# EAGLE library part PHB_1MM27_2X10_* (library _hhn_con_pinhead_box_1mm27)
Pin Header Box-Type, 1.27mm/0.5"/50mil Pitch, 2x10 Circuits Note: see library description for an important note about THT-version
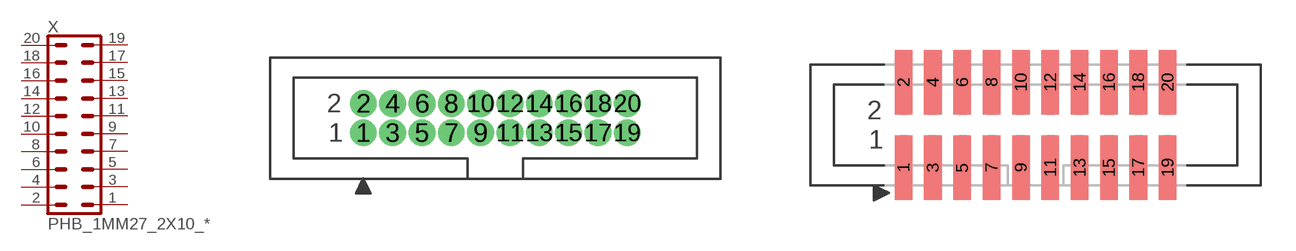
[diagram p14: symbol with the pads of PHB_1MM27_2X10_SNT; footprints PHB_1MM27_2X10_SNT, PHB_1MM27_2X10_SNS]

Designator prefix X

## PHB_1MM27_2X10_SNT  [PHB_1MM27_2X10_SNT]
1  1  pas
2  2  pas
3  3  pas
4  4  pas
5  5  pas
6  6  pas
7  7  pas
8  8  pas
9  9  pas
10  10  pas
11  11  pas
12  12  pas
13  13  pas
14  14  pas
15  15  pas
16  16  pas
17  17  pas
18  18  pas
19  19  pas
20  20  pas

## PHB_1MM27_2X10_SNS  [PHB_1MM27_2X10_SNS]
Pads as for PHB_1MM27_2X10_SNT

## Footprint PHB_1MM27_2X10_SNT (pad centres in mm)
Pin Header Box-Type, 1.27mm Pitch, 2x10 circuits, Straight, No Locking, THT Important Note: Diameter in this lbr is set to a specific value (NOT 'auto' = 0), this is ignored by actual eagle versions if drc-settings result in a bigger diameter. Workaround: DRC > Restring: set "min value" to 8mil (on top, bottom, inner) This requires an 8-mil process (pcb manufacturer)! You may increase %-value, e.g. to 25%
drill 0.65 pad 1 round: 1 -5.715,-0.635; 2 -5.715,0.635; 3 -4.445,-0.635; 4 -4.445,0.635; 5 -3.175,-0.635; 6 -3.175,0.635; 7 -1.905,-0.635; 8 -1.905,0.635; 9 -0.635,-0.635; 10 -0.635,0.635; 11 0.635,-0.635; 12 0.635,0.635; 13 1.905,-0.635; 14 1.905,0.635; 15 3.175,-0.635; 16 3.175,0.635; 17 4.445,-0.635; 18 4.445,0.635; 19 5.715,-0.635; 20 5.715,0.635

## Footprint PHB_1MM27_2X10_SNS (pad centres in mm)
Pin Header Box-Type, 1.27mm Pitch, 2x10 circuits, Straight, No Locking, SMT
smd 0.76 x 2.8: 1 -5.715,-1.85; 2 -5.715,1.85; 3 -4.445,-1.85; 4 -4.445,1.85; 5 -3.175,-1.85; 6 -3.175,1.85; 7 -1.905,-1.85; 8 -1.905,1.85; 9 -0.635,-1.85; 10 -0.635,1.85; 11 0.635,-1.85; 12 0.635,1.85; 13 1.905,-1.85; 14 1.905,1.85; 15 3.175,-1.85; 16 3.175,1.85; 17 4.445,-1.85; 18 4.445,1.85; 19 5.715,-1.85; 20 5.715,1.85